# EAGLE library part QHL300300S28 (library QHL300300S28)
Isolated DC/DC Converters DC-DC 300W 180-425VDC INPUT 1/4 BRICK Source: Datasheet <https://datasheet.datasheetarchive.com/originals/distributors/Datasheets_SAMA/eb163ed829194035f4784d5866aa88af.pdf>
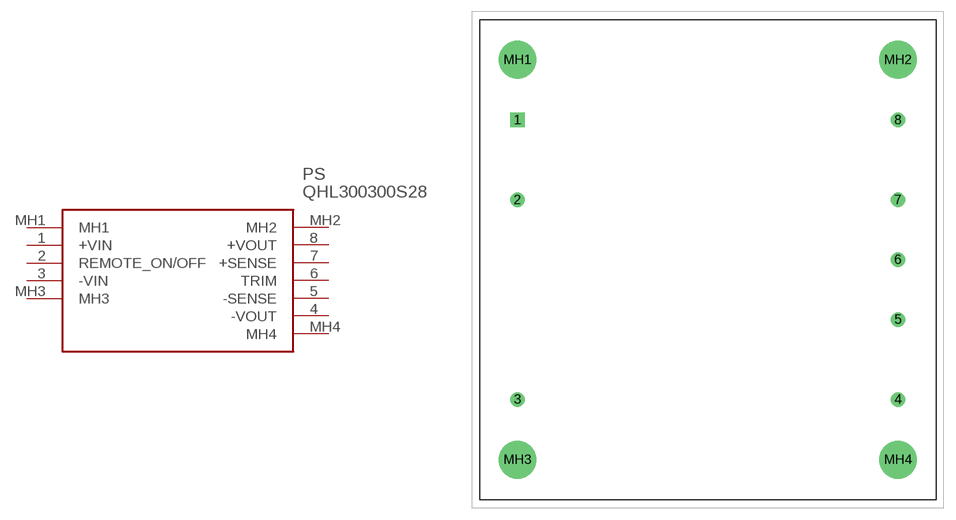
[diagram p0: symbol with the pads of QHL300300S28; footprint QHL300300S28]

Designator prefix PS

## QHL300300S28 (Description: Isolated DC/DC Converters DC-DC 300W 180-425VDC INPUT 1/4 BRICK; Height: 13.2mm; Manufacturer_Name: XP POWER; Manufacturer_Part_Number: QHL300300S28; Mouser_Part_Number: 209-QHL300300S28; Mouser_Price-Stock: https://www.mouser.co.uk/ProductDetail/XP-Power/QHL300300S28?qs=XeJtXLiO41S1AiIkr8Y80Q%3D%3D)  [QHL300300S28]
1  +VIN
2  REMOTE_ON/OFF
3  -VIN
4  -VOUT
5  -SENSE
6  TRIM
7  +SENSE
8  +VOUT
MH1  MH1
MH2  MH2
MH3  MH3
MH4  MH4

## Footprint QHL300300S28 (pad centres in mm)
QHL300300S28-2
drill 1.22 pad 1.83 square: 1 0,0
drill 1.22 pad 1.83: 2 0,-10.15; 3 0,-35.5; 4 48.3,-35.5; 5 48.3,-25.35; 6 48.3,-17.75; 7 48.3,-10.15; 8 48.3,0
drill 3.2 pad 4.8: MH1 0,7.65; MH2 48.3,7.65; MH3 0,-43.15; MH4 48.3,-43.15